# Altium integrated library SSM3K7002CFU,LF.IntLib: 1 symbol
Pins are listed as number, name and electrical type; pins without a type are passive.

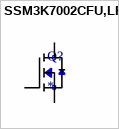
[diagram p0: symbol SSM3K7002CFU,LF]

## SSM3K7002CFU,LF
designator Q?
MOSFET N-CH 60V 0.17A SMD / Manufacturer PN: SSM3K7002CFU,LF
footprint SOT323
pins: 1 G, 2 S, 3 D